# Altium footprint library SM_ESP32-WROVER.PcbLib: 1 footprints
Each footprint in its own frame and in the unit in brackets; x right, y up, seen from the top. Pads: shape width x height; smd on the part's side, far side on the other; paste and mask are expansions set on the pad; w line width, h text height; cw(c..) or ccw(c..) is an arc to the next point about the centre after c.
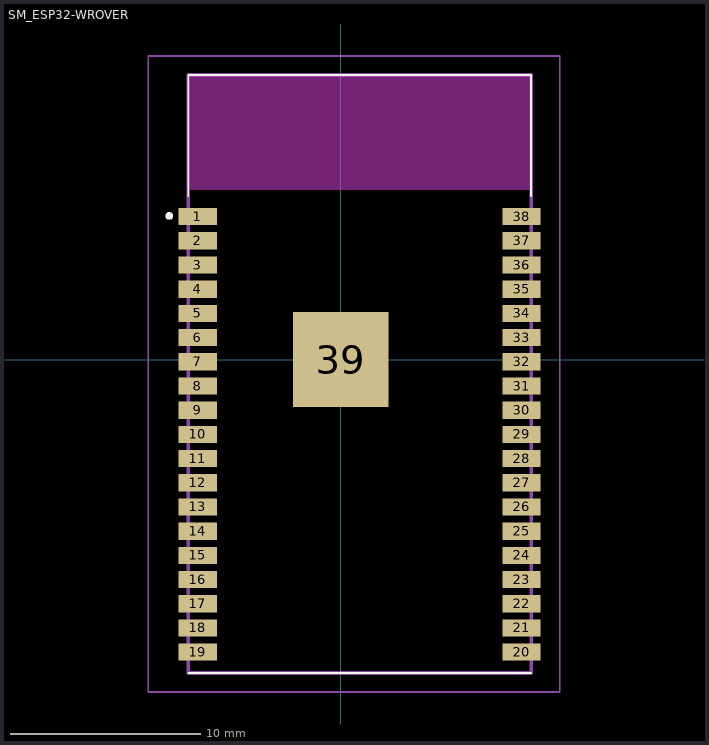
[diagram p0: the footprint, top view; thin cyan lines are the x and y axes]

## SM_ESP32-WROVER [mm]
pads (39):
  rect 2x0.9 smd: 1(-7.5,7.5) 2(-7.5,6.23) 3(-7.5,4.96) 4(-7.5,3.69) 5(-7.5,2.42) 6(-7.5,1.15) 7(-7.5,-0.12) 8(-7.5,-1.39) 9(-7.5,-2.66) 10(-7.5,-3.93) 11(-7.5,-5.2) 12(-7.5,-6.47) 13(-7.5,-7.74) 14(-7.5,-9.01) 15(-7.5,-10.28) 16(-7.5,-11.55) 17(-7.5,-12.82) 18(-7.5,-14.09) 19(-7.5,-15.36) 20(9.5,-15.36) 21(9.5,-14.09) 22(9.5,-12.82) 23(9.5,-11.55) 24(9.5,-10.28) 25(9.5,-9.01) 26(9.5,-7.74) 27(9.5,-6.47) 28(9.5,-5.2) 29(9.5,-3.93) 30(9.5,-2.66) 31(9.5,-1.39) 32(9.5,-0.12) 33(9.5,1.15) 34(9.5,2.42) 35(9.5,3.69) 36(9.5,4.96) 37(9.5,6.23) 38(9.5,7.5)
  rect 5x5 smd: 39(0,0)
L26-Silk Screen Top (Multiple PADS layers...):
  lines w0.1: -8,-16.46 10,-16.46 ; -8,8.59 -8,14.94 10,14.94 10,8.59
  lines w0.2: -9,7.44 ccw(c-9,7.54) -9,7.64 ccw(c-9,7.54) -9,7.44
Keep-Out Layer:
  rectangle: -8.017,8.892 10.017,14.861
L15 (Multiple PADS layers...):
  lines w0.2: -8,-16.46 10,-16.46 10,14.94 -8,14.94 -8,-16.46
L20:
  lines w0.1: -10.1,-17.46 11.5,-17.46 11.5,15.94 -10.1,15.94 -10.1,-17.46
3D body: height 3.4, standoff 0, extent -7,-15.46 9,8.54
3D body: height 0.9, standoff 0, extent -8,-16.463 10,14.866